# Altium schematic symbol library ESC.SchLib: 1 symbol
Pins are listed as number, name and electrical type; pins without a type are passive.

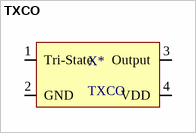
[diagram p0: symbol TXCO]

## TXCO
designator X*
footprint OSCDFN250X200X89-4N
pins: 1 Tri-State, 2 GND, 3 Output, 4 VDD